# EAGLE library part IMP001 (library captain-slow)
SD Memory Connector 9P Push-Push Mouser Part No: 523-101-00313-68-02
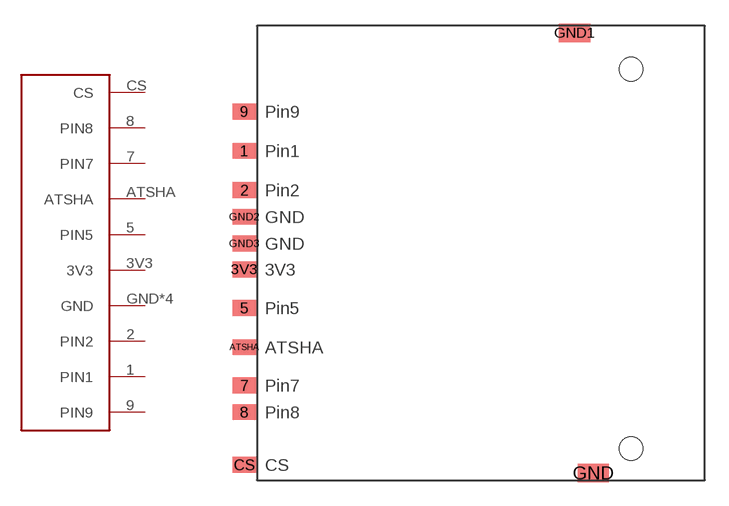
[diagram p5: symbol with the pads of IMP001; footprint IMP001]

Designator prefix -

## IMP001  [IMP001]
1  PIN1
2  PIN2
3V3  3V3
5  PIN5
7  PIN7
8  PIN8
9  PIN9
ATSHA  ATSHA
CS  CS
GND  GND
GND1  GND
GND2  GND
GND3  GND

## Footprint IMP001 (pad centres in mm)
SD Memory Connector 9P Push-Push Mouser Part No: 523-101-00313-68-02
smd 1.5 x 1: 1 -24.31,6.1; 2 -24.31,3.6; 3V3 -24.31,-1.45; 5 -24.31,-3.9; 7 -24.31,-8.83; 8 -24.31,-10.53; 9 -24.31,8.6; ATSHA -24.31,-6.4; CS -24.31,-13.88; GND2 -24.31,1.9; GND3 -24.31,0.2
smd 2 x 1.2: GND -2.1,-14.4; GND1 -3.3,13.6
hole 1.5 at 0.31,11.3
hole 1.5 at 0.31,-12.85